# EAGLE library part BME280 (library BME280)
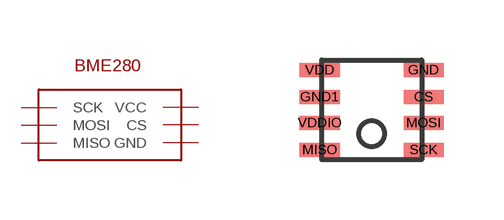
[diagram p0: symbol with the pads of BME280; footprint BME280]

Designator prefix -

## BME280  [BME280]
CS  CS
GND  GND
GND1  GND
MISO  MISO
MOSI  MOSI
SCK  SCK
VDD  VCC
VDDIO  VCC

## Footprint BME280 (pad centres in mm)
smd 1 x 0.35: CS 1.3,0.325; GND 1.3,1; GND1 -1.3,0.325; MISO -1.3,-1; MOSI 1.3,-0.325; SCK 1.3,-1; VDD -1.3,1; VDDIO -1.3,-0.325